# Altium schematic symbol library STH315N10F7-2.SchLib: 1 symbol
Pins are listed as number, name and electrical type; pins without a type are passive.

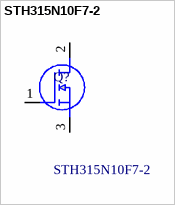
[diagram p0: symbol STH315N10F7-2]

## STH315N10F7-2
designator Q?
Automotive-grade N-channel 100 V, 2.1 m typ., 180 A STripFET F7 Power MOSFETs in an HPAK2 and HPAK6 packages; Manufacturer_Name: STMicroelectronics; Geometry.Height: 4.9mm; Mouser Part Number: 511-STH315N10F7-2; Mouser Price/Stock: https://www.mouser.co.uk/ProductDetail/STMicroelectronics/STH315N10F7-2?qs=DqCdCwOw4%2F6biN%2FHDRW73g%3D%3D; Manufacturer_Part_Number: STH315N10F7-2; Datasheet Link: https://www.st.com/resource/en/datasheet/sth315n10f7-2.pdf
footprint STH315N10F72
pins: 1 G, 2 D, 3 S